# Altium schematic symbol library Power and Battery Management.SchLib: 645 symbols (part 7 of 15)
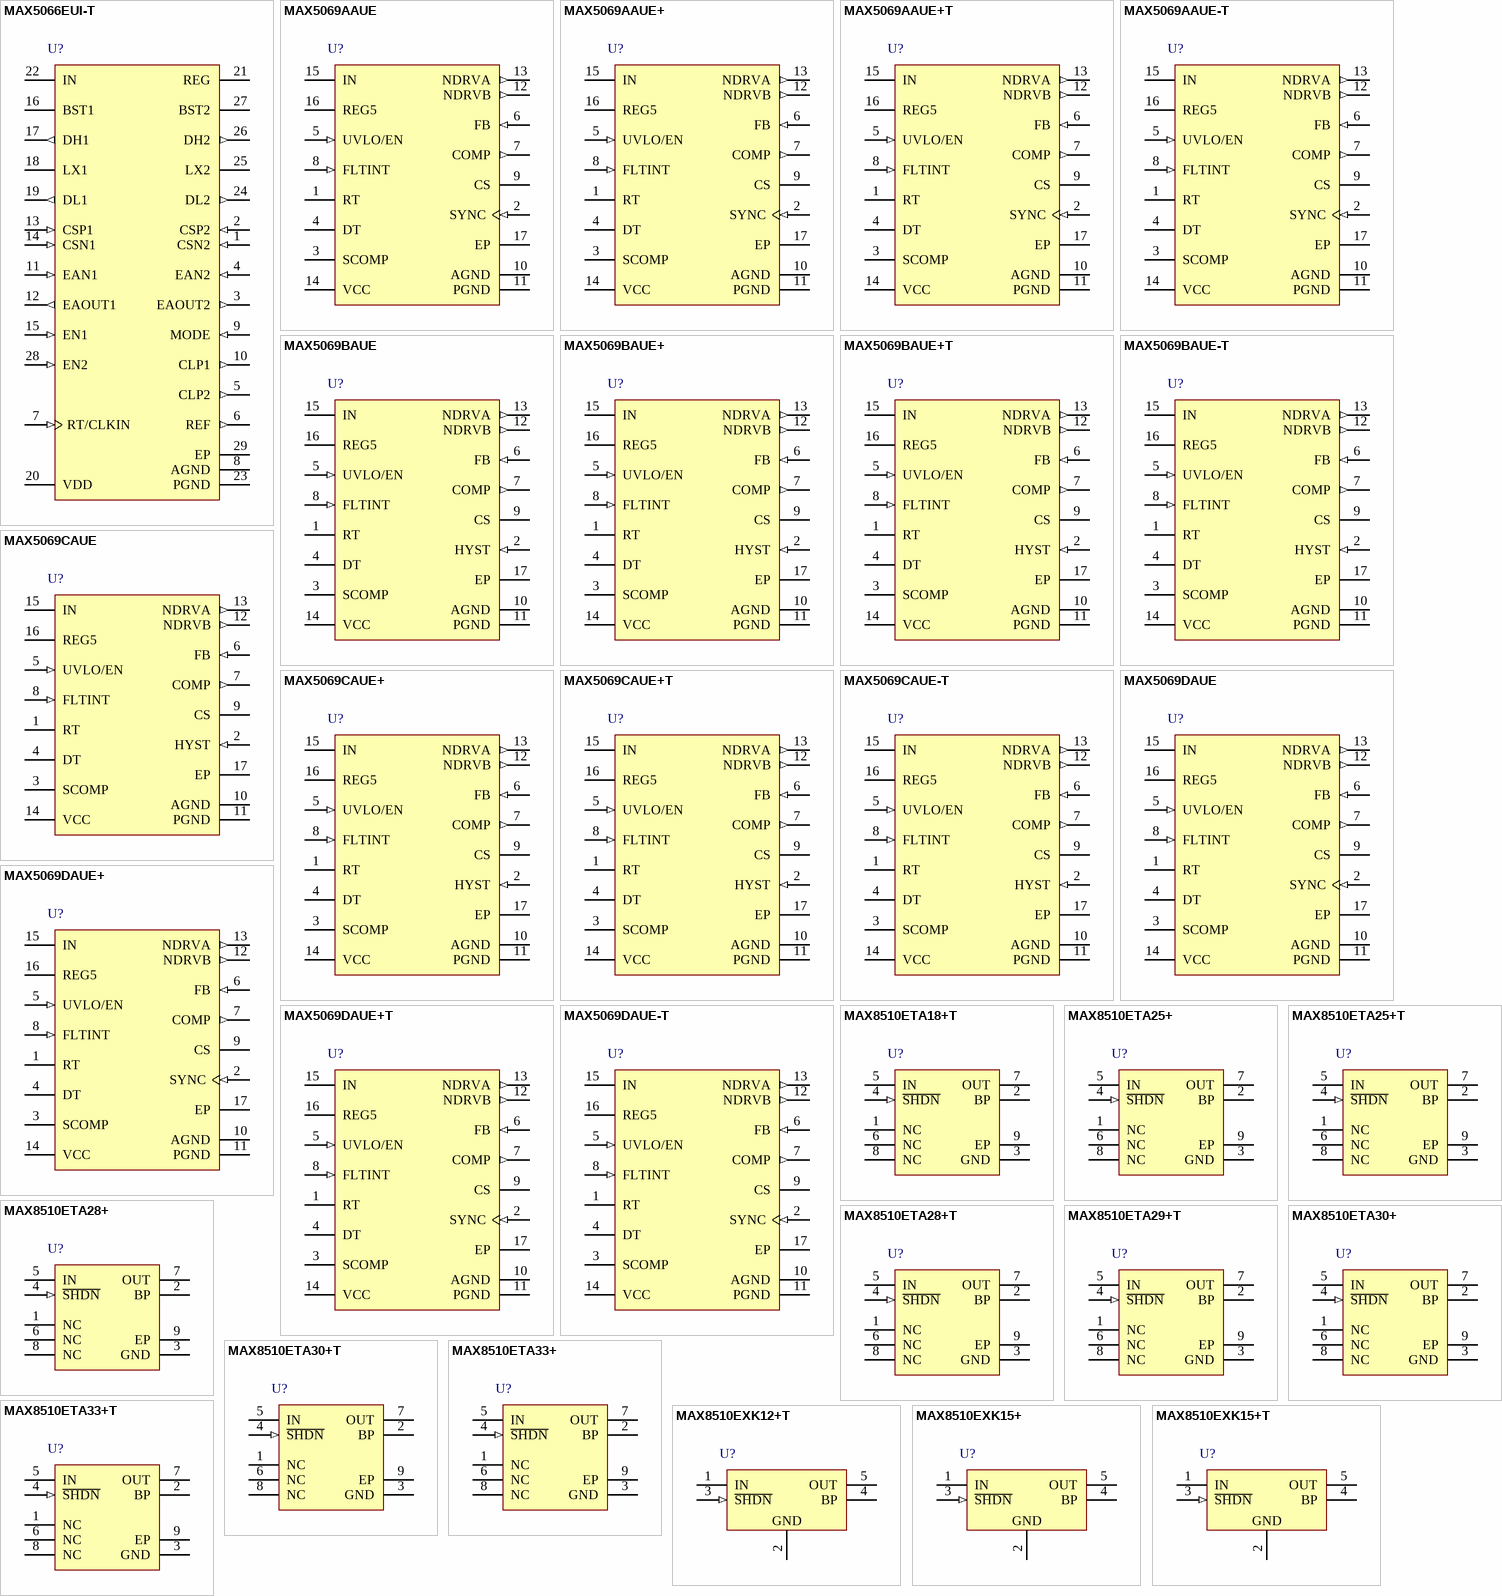
[diagram p25: symbols MAX5066EUI-T to MAX8510EXK15+T]

## MAX5066EUI-T
designator U?
Configurable, Single-/Dual-Output, Synchronous Buck Controller for High-Current Applications, 28-Pin TSSOP-EP, -40°C to +85°C, Tape and Reel; DatasheetVersion: Rev 1, Aug-2005; PackageVersion: revK, 2010; PackageReference: U28E-4; PackageDescription: 28-Pin Thin Shrink Small-Outline Package, Exposed Pad, TSSOP-EP; Code_JEDEC: MO-153-AET; ComponentLink1Description: Manufacturer URL; ComponentLink1URL: http://www.maxim-ic.com; ComponentLink2Description: Datasheet; ComponentLink2URL: http://datasheets.maxim-ic.com/en/ds/MAX5066.pdf; ComponentLink3Description: Package Specification; ComponentLink3URL: http://pdfserv.maxim-ic.com/package_dwgs/21-0108.PDF
footprint U28E-4_N (TSOP, 28-Leads, Body 9.7x4.4mm, Pitch 0.65mm, Thermal Pad, IPC Medium Density)
footprint U28E-4_L (TSOP, 28-Leads, Body 9.7x4.4mm, Pitch 0.65mm, Thermal Pad, IPC High Density)
footprint U28E-4_M (TSOP, 28-Leads, Body 9.7x4.4mm, Pitch 0.65mm, Thermal Pad, IPC Low Density)
pins: 1 CSN2 (in), 2 CSP2 (in), 3 EAOUT2 (out), 4 EAN2 (in), 5 CLP2 (out), 6 REF (out), 7 RT/CLKIN (in), 8 AGND (power), 9 MODE (in), 10 CLP1 (out), 11 EAN1 (in), 12 EAOUT1 (out), 13 CSP1 (in), 14 CSN1 (in), 15 EN1 (in), 16 BST1, 17 DH1 (out), 18 LX1, 19 DL1 (out), 20 VDD (power), 21 REG (power), 22 IN (power), 23 PGND (power), 24 DL2 (out), 25 LX2, 26 DH2 (out), 27 BST2, 28 EN2 (in), 29 EP (power)

## MAX5069AAUE
designator U?
High-Frequency, Current-Mode PWM Controller with Accurate Oscillator and Dual FET Drivers, sync input, 16-Pin TSSOP-EP, -40°C to +125°C; DatasheetVersion: Rev 1, Jul-2004; PackageVersion: revK, 2010; PackageReference: U16E-3; PackageDescription: 16-Pin Thin Shrink Small Outline Package, Exposed Pad 5 x 4.4 mm Body ,0.65 mm Pitch, TSSOP-EP; Code_JEDEC: MO-153-ABT; ComponentLink1Description: Manufacturer URL; ComponentLink1URL: http://www.maxim-ic.com; ComponentLink2Description: Datasheet; ComponentLink2URL: http://datasheets.maxim-ic.com/en/ds/MAX5069.pdf; ComponentLink3Description: Package Specification; ComponentLink3URL: http://pdfserv.maxim-ic.com/package_dwgs/21-0108.PDF
footprint U16E-3_N (TSOP, 16-Leads, Body 5x4.4mm, Pitch 0.65mm, Thermal Pad 2.85x2.85mm, IPC Medium Density)
footprint U16E-3_L (TSOP, 16-Leads, Body 5x4.4mm, Pitch 0.65mm, Thermal Pad 2.85x2.85mm, IPC High Density)
footprint U16E-3_M (TSOP, 16-Leads, Body 5x4.4mm, Pitch 0.65mm, Thermal Pad 2.85x2.85mm, IPC Low Density)
pins: 1 RT, 2 SYNC (in), 3 SCOMP, 4 DT, 5 UVLO/EN (in), 6 FB (in), 7 COMP (out), 8 FLTINT (in), 9 CS, 10 AGND (power), 11 PGND (power), 12 NDRVB (out), 13 NDRVA (out), 14 VCC (power), 15 IN (power), 16 REG5 (power), 17 EP (power)

## MAX5069AAUE+
designator U?
High-Frequency, Current-Mode PWM Controller with Accurate Oscillator and Dual FET Drivers, sync input, 16-Pin TSSOP-EP, -40°C to +125°C, Pb-Free; DatasheetVersion: Rev 1, Jul-2004; PackageVersion: revK, 2010; PackageReference: U16E+3; PackageDescription: 16-Pin Thin Shrink Small Outline Package, Exposed Pad 5 x 4.4 mm Body ,0.65 mm Pitch, TSSOP-EP, Pb-Free; Code_JEDEC: MO-153-ABT; ComponentLink1Description: Manufacturer URL; ComponentLink1URL: http://www.maxim-ic.com; ComponentLink2Description: Datasheet; ComponentLink2URL: http://datasheets.maxim-ic.com/en/ds/MAX5069.pdf; ComponentLink3Description: Package Specification; ComponentLink3URL: http://pdfserv.maxim-ic.com/package_dwgs/21-0108.PDF
footprint U16E+3_N (TSOP, 16-Leads, Body 5x4.4mm, Pitch 0.65mm, Thermal Pad 2.85x2.85mm, IPC Medium Density)
footprint U16E+3_L (TSOP, 16-Leads, Body 5x4.4mm, Pitch 0.65mm, Thermal Pad 2.85x2.85mm, IPC High Density)
footprint U16E+3_M (TSOP, 16-Leads, Body 5x4.4mm, Pitch 0.65mm, Thermal Pad 2.85x2.85mm, IPC Low Density)
pins: 1 RT, 2 SYNC (in), 3 SCOMP, 4 DT, 5 UVLO/EN (in), 6 FB (in), 7 COMP (out), 8 FLTINT (in), 9 CS, 10 AGND (power), 11 PGND (power), 12 NDRVB (out), 13 NDRVA (out), 14 VCC (power), 15 IN (power), 16 REG5 (power), 17 EP (power)

## MAX5069AAUE+T
designator U?
High-Frequency, Current-Mode PWM Controller with Accurate Oscillator and Dual FET Drivers, sync input, 16-Pin TSSOP-EP, -40°C to +125°C, Pb-Free, Tape and Reel; DatasheetVersion: Rev 1, Jul-2004; PackageVersion: revK, 2010; PackageReference: U16E+3; PackageDescription: 16-Pin Thin Shrink Small Outline Package, Exposed Pad 5 x 4.4 mm Body ,0.65 mm Pitch, TSSOP-EP, Pb-Free; Code_JEDEC: MO-153-ABT; ComponentLink1Description: Manufacturer URL; ComponentLink1URL: http://www.maxim-ic.com; ComponentLink2Description: Datasheet; ComponentLink2URL: http://datasheets.maxim-ic.com/en/ds/MAX5069.pdf; ComponentLink3Description: Package Specification; ComponentLink3URL: http://pdfserv.maxim-ic.com/package_dwgs/21-0108.PDF
footprint U16E+3_N (TSOP, 16-Leads, Body 5x4.4mm, Pitch 0.65mm, Thermal Pad 2.85x2.85mm, IPC Medium Density)
footprint U16E+3_L (TSOP, 16-Leads, Body 5x4.4mm, Pitch 0.65mm, Thermal Pad 2.85x2.85mm, IPC High Density)
footprint U16E+3_M (TSOP, 16-Leads, Body 5x4.4mm, Pitch 0.65mm, Thermal Pad 2.85x2.85mm, IPC Low Density)
pins: 1 RT, 2 SYNC (in), 3 SCOMP, 4 DT, 5 UVLO/EN (in), 6 FB (in), 7 COMP (out), 8 FLTINT (in), 9 CS, 10 AGND (power), 11 PGND (power), 12 NDRVB (out), 13 NDRVA (out), 14 VCC (power), 15 IN (power), 16 REG5 (power), 17 EP (power)

## MAX5069AAUE-T
designator U?
High-Frequency, Current-Mode PWM Controller with Accurate Oscillator and Dual FET Drivers, sync input, 16-Pin TSSOP-EP, -40°C to +125°C, Tape and Reel; DatasheetVersion: Rev 1, Jul-2004; PackageVersion: revK, 2010; PackageReference: U16E-3; PackageDescription: 16-Pin Thin Shrink Small Outline Package, Exposed Pad 5 x 4.4 mm Body ,0.65 mm Pitch, TSSOP-EP; Code_JEDEC: MO-153-ABT; ComponentLink1Description: Manufacturer URL; ComponentLink1URL: http://www.maxim-ic.com; ComponentLink2Description: Datasheet; ComponentLink2URL: http://datasheets.maxim-ic.com/en/ds/MAX5069.pdf; ComponentLink3Description: Package Specification; ComponentLink3URL: http://pdfserv.maxim-ic.com/package_dwgs/21-0108.PDF
footprint U16E-3_N (TSOP, 16-Leads, Body 5x4.4mm, Pitch 0.65mm, Thermal Pad 2.85x2.85mm, IPC Medium Density)
footprint U16E-3_L (TSOP, 16-Leads, Body 5x4.4mm, Pitch 0.65mm, Thermal Pad 2.85x2.85mm, IPC High Density)
footprint U16E-3_M (TSOP, 16-Leads, Body 5x4.4mm, Pitch 0.65mm, Thermal Pad 2.85x2.85mm, IPC Low Density)
pins: 1 RT, 2 SYNC (in), 3 SCOMP, 4 DT, 5 UVLO/EN (in), 6 FB (in), 7 COMP (out), 8 FLTINT (in), 9 CS, 10 AGND (power), 11 PGND (power), 12 NDRVB (out), 13 NDRVA (out), 14 VCC (power), 15 IN (power), 16 REG5 (power), 17 EP (power)

## MAX5069BAUE
designator U?
High-Frequency, Current-Mode PWM Controller with Accurate Oscillator and Dual FET Drivers, 16-Pin TSSOP-EP, -40°C to +125°C; DatasheetVersion: Rev 1, Jul-2004; PackageVersion: revK, 2010; PackageReference: U16E-3; PackageDescription: 16-Pin Thin Shrink Small Outline Package, Exposed Pad 5 x 4.4 mm Body ,0.65 mm Pitch, TSSOP-EP; Code_JEDEC: MO-153-ABT; ComponentLink1Description: Manufacturer URL; ComponentLink1URL: http://www.maxim-ic.com; ComponentLink2Description: Datasheet; ComponentLink2URL: http://datasheets.maxim-ic.com/en/ds/MAX5069.pdf; ComponentLink3Description: Package Specification; ComponentLink3URL: http://pdfserv.maxim-ic.com/package_dwgs/21-0108.PDF
footprint U16E-3_N (TSOP, 16-Leads, Body 5x4.4mm, Pitch 0.65mm, Thermal Pad 2.85x2.85mm, IPC Medium Density)
footprint U16E-3_L (TSOP, 16-Leads, Body 5x4.4mm, Pitch 0.65mm, Thermal Pad 2.85x2.85mm, IPC High Density)
footprint U16E-3_M (TSOP, 16-Leads, Body 5x4.4mm, Pitch 0.65mm, Thermal Pad 2.85x2.85mm, IPC Low Density)
pins: 1 RT, 2 HYST (in), 3 SCOMP, 4 DT, 5 UVLO/EN (in), 6 FB (in), 7 COMP (out), 8 FLTINT (in), 9 CS, 10 AGND (power), 11 PGND (power), 12 NDRVB (out), 13 NDRVA (out), 14 VCC (power), 15 IN (power), 16 REG5 (power), 17 EP (power)

## MAX5069BAUE+
designator U?
High-Frequency, Current-Mode PWM Controller with Accurate Oscillator and Dual FET Drivers, 16-Pin TSSOP-EP, -40°C to +125°C, Pb-Free; DatasheetVersion: Rev 1, Jul-2004; PackageVersion: revK, 2010; PackageReference: U16E+3; PackageDescription: 16-Pin Thin Shrink Small Outline Package, Exposed Pad 5 x 4.4 mm Body ,0.65 mm Pitch, TSSOP-EP, Pb-Free; Code_JEDEC: MO-153-ABT; ComponentLink1Description: Manufacturer URL; ComponentLink1URL: http://www.maxim-ic.com; ComponentLink2Description: Datasheet; ComponentLink2URL: http://datasheets.maxim-ic.com/en/ds/MAX5069.pdf; ComponentLink3Description: Package Specification; ComponentLink3URL: http://pdfserv.maxim-ic.com/package_dwgs/21-0108.PDF
footprint U16E+3_N (TSOP, 16-Leads, Body 5x4.4mm, Pitch 0.65mm, Thermal Pad 2.85x2.85mm, IPC Medium Density)
footprint U16E+3_L (TSOP, 16-Leads, Body 5x4.4mm, Pitch 0.65mm, Thermal Pad 2.85x2.85mm, IPC High Density)
footprint U16E+3_M (TSOP, 16-Leads, Body 5x4.4mm, Pitch 0.65mm, Thermal Pad 2.85x2.85mm, IPC Low Density)
pins: 1 RT, 2 HYST (in), 3 SCOMP, 4 DT, 5 UVLO/EN (in), 6 FB (in), 7 COMP (out), 8 FLTINT (in), 9 CS, 10 AGND (power), 11 PGND (power), 12 NDRVB (out), 13 NDRVA (out), 14 VCC (power), 15 IN (power), 16 REG5 (power), 17 EP (power)

## MAX5069BAUE+T
designator U?
High-Frequency, Current-Mode PWM Controller with Accurate Oscillator and Dual FET Drivers, 16-Pin TSSOP-EP, -40°C to +125°C, Pb-Free, Tape and Reel; DatasheetVersion: Rev 1, Jul-2004; PackageVersion: revK, 2010; PackageReference: U16E+3; PackageDescription: 16-Pin Thin Shrink Small Outline Package, Exposed Pad 5 x 4.4 mm Body ,0.65 mm Pitch, TSSOP-EP, Pb-Free; Code_JEDEC: MO-153-ABT; ComponentLink1Description: Manufacturer URL; ComponentLink1URL: http://www.maxim-ic.com; ComponentLink2Description: Datasheet; ComponentLink2URL: http://datasheets.maxim-ic.com/en/ds/MAX5069.pdf; ComponentLink3Description: Package Specification; ComponentLink3URL: http://pdfserv.maxim-ic.com/package_dwgs/21-0108.PDF
footprint U16E+3_N (TSOP, 16-Leads, Body 5x4.4mm, Pitch 0.65mm, Thermal Pad 2.85x2.85mm, IPC Medium Density)
footprint U16E+3_L (TSOP, 16-Leads, Body 5x4.4mm, Pitch 0.65mm, Thermal Pad 2.85x2.85mm, IPC High Density)
footprint U16E+3_M (TSOP, 16-Leads, Body 5x4.4mm, Pitch 0.65mm, Thermal Pad 2.85x2.85mm, IPC Low Density)
pins: 1 RT, 2 HYST (in), 3 SCOMP, 4 DT, 5 UVLO/EN (in), 6 FB (in), 7 COMP (out), 8 FLTINT (in), 9 CS, 10 AGND (power), 11 PGND (power), 12 NDRVB (out), 13 NDRVA (out), 14 VCC (power), 15 IN (power), 16 REG5 (power), 17 EP (power)

## MAX5069BAUE-T
designator U?
High-Frequency, Current-Mode PWM Controller with Accurate Oscillator and Dual FET Drivers, 16-Pin TSSOP-EP, -40°C to +125°C, Tape and Reel; DatasheetVersion: Rev 1, Jul-2004; PackageVersion: revK, 2010; PackageReference: U16E-3; PackageDescription: 16-Pin Thin Shrink Small Outline Package, Exposed Pad 5 x 4.4 mm Body ,0.65 mm Pitch, TSSOP-EP; Code_JEDEC: MO-153-ABT; ComponentLink1Description: Manufacturer URL; ComponentLink1URL: http://www.maxim-ic.com; ComponentLink2Description: Datasheet; ComponentLink2URL: http://datasheets.maxim-ic.com/en/ds/MAX5069.pdf; ComponentLink3Description: Package Specification; ComponentLink3URL: http://pdfserv.maxim-ic.com/package_dwgs/21-0108.PDF
footprint U16E-3_N (TSOP, 16-Leads, Body 5x4.4mm, Pitch 0.65mm, Thermal Pad 2.85x2.85mm, IPC Medium Density)
footprint U16E-3_L (TSOP, 16-Leads, Body 5x4.4mm, Pitch 0.65mm, Thermal Pad 2.85x2.85mm, IPC High Density)
footprint U16E-3_M (TSOP, 16-Leads, Body 5x4.4mm, Pitch 0.65mm, Thermal Pad 2.85x2.85mm, IPC Low Density)
pins: 1 RT, 2 HYST (in), 3 SCOMP, 4 DT, 5 UVLO/EN (in), 6 FB (in), 7 COMP (out), 8 FLTINT (in), 9 CS, 10 AGND (power), 11 PGND (power), 12 NDRVB (out), 13 NDRVA (out), 14 VCC (power), 15 IN (power), 16 REG5 (power), 17 EP (power)

## MAX5069CAUE
designator U?
High-Frequency, Current-Mode PWM Controller with Accurate Oscillator and Dual FET Drivers, 16-Pin TSSOP-EP, -40°C to +125°C; DatasheetVersion: Rev 1, Jul-2004; PackageVersion: revK, 2010; PackageReference: U16E-3; PackageDescription: 16-Pin Thin Shrink Small Outline Package, Exposed Pad 5 x 4.4 mm Body ,0.65 mm Pitch, TSSOP-EP; Code_JEDEC: MO-153-ABT; ComponentLink1Description: Manufacturer URL; ComponentLink1URL: http://www.maxim-ic.com; ComponentLink2Description: Datasheet; ComponentLink2URL: http://datasheets.maxim-ic.com/en/ds/MAX5069.pdf; ComponentLink3Description: Package Specification; ComponentLink3URL: http://pdfserv.maxim-ic.com/package_dwgs/21-0108.PDF
footprint U16E-3_N (TSOP, 16-Leads, Body 5x4.4mm, Pitch 0.65mm, Thermal Pad 2.85x2.85mm, IPC Medium Density)
footprint U16E-3_L (TSOP, 16-Leads, Body 5x4.4mm, Pitch 0.65mm, Thermal Pad 2.85x2.85mm, IPC High Density)
footprint U16E-3_M (TSOP, 16-Leads, Body 5x4.4mm, Pitch 0.65mm, Thermal Pad 2.85x2.85mm, IPC Low Density)
pins: 1 RT, 2 HYST (in), 3 SCOMP, 4 DT, 5 UVLO/EN (in), 6 FB (in), 7 COMP (out), 8 FLTINT (in), 9 CS, 10 AGND (power), 11 PGND (power), 12 NDRVB (out), 13 NDRVA (out), 14 VCC (power), 15 IN (power), 16 REG5 (power), 17 EP (power)

## MAX5069CAUE+
designator U?
High-Frequency, Current-Mode PWM Controller with Accurate Oscillator and Dual FET Drivers, 16-Pin TSSOP-EP, -40°C to +125°C, Pb-Free; DatasheetVersion: Rev 1, Jul-2004; PackageVersion: revK, 2010; PackageReference: U16E+3; PackageDescription: 16-Pin Thin Shrink Small Outline Package, Exposed Pad 5 x 4.4 mm Body ,0.65 mm Pitch, TSSOP-EP, Pb-Free; Code_JEDEC: MO-153-ABT; ComponentLink1Description: Manufacturer URL; ComponentLink1URL: http://www.maxim-ic.com; ComponentLink2Description: Datasheet; ComponentLink2URL: http://datasheets.maxim-ic.com/en/ds/MAX5069.pdf; ComponentLink3Description: Package Specification; ComponentLink3URL: http://pdfserv.maxim-ic.com/package_dwgs/21-0108.PDF
footprint U16E+3_N (TSOP, 16-Leads, Body 5x4.4mm, Pitch 0.65mm, Thermal Pad 2.85x2.85mm, IPC Medium Density)
footprint U16E+3_L (TSOP, 16-Leads, Body 5x4.4mm, Pitch 0.65mm, Thermal Pad 2.85x2.85mm, IPC High Density)
footprint U16E+3_M (TSOP, 16-Leads, Body 5x4.4mm, Pitch 0.65mm, Thermal Pad 2.85x2.85mm, IPC Low Density)
pins: 1 RT, 2 HYST (in), 3 SCOMP, 4 DT, 5 UVLO/EN (in), 6 FB (in), 7 COMP (out), 8 FLTINT (in), 9 CS, 10 AGND (power), 11 PGND (power), 12 NDRVB (out), 13 NDRVA (out), 14 VCC (power), 15 IN (power), 16 REG5 (power), 17 EP (power)

## MAX5069CAUE+T
designator U?
High-Frequency, Current-Mode PWM Controller with Accurate Oscillator and Dual FET Drivers, 16-Pin TSSOP-EP, -40°C to +125°C, Pb-Free, Tape and Reel; DatasheetVersion: Rev 1, Jul-2004; PackageVersion: revK, 2010; PackageReference: U16E+3; PackageDescription: 16-Pin Thin Shrink Small Outline Package, Exposed Pad 5 x 4.4 mm Body ,0.65 mm Pitch, TSSOP-EP, Pb-Free; Code_JEDEC: MO-153-ABT; ComponentLink1Description: Manufacturer URL; ComponentLink1URL: http://www.maxim-ic.com; ComponentLink2Description: Datasheet; ComponentLink2URL: http://datasheets.maxim-ic.com/en/ds/MAX5069.pdf; ComponentLink3Description: Package Specification; ComponentLink3URL: http://pdfserv.maxim-ic.com/package_dwgs/21-0108.PDF
footprint U16E+3_N (TSOP, 16-Leads, Body 5x4.4mm, Pitch 0.65mm, Thermal Pad 2.85x2.85mm, IPC Medium Density)
footprint U16E+3_L (TSOP, 16-Leads, Body 5x4.4mm, Pitch 0.65mm, Thermal Pad 2.85x2.85mm, IPC High Density)
footprint U16E+3_M (TSOP, 16-Leads, Body 5x4.4mm, Pitch 0.65mm, Thermal Pad 2.85x2.85mm, IPC Low Density)
pins: 1 RT, 2 HYST (in), 3 SCOMP, 4 DT, 5 UVLO/EN (in), 6 FB (in), 7 COMP (out), 8 FLTINT (in), 9 CS, 10 AGND (power), 11 PGND (power), 12 NDRVB (out), 13 NDRVA (out), 14 VCC (power), 15 IN (power), 16 REG5 (power), 17 EP (power)

## MAX5069CAUE-T
designator U?
High-Frequency, Current-Mode PWM Controller with Accurate Oscillator and Dual FET Drivers, 16-Pin TSSOP-EP, -40°C to +125°C, Tape and Reel; DatasheetVersion: Rev 1, Jul-2004; PackageVersion: revK, 2010; PackageReference: U16E-3; PackageDescription: 16-Pin Thin Shrink Small Outline Package, Exposed Pad 5 x 4.4 mm Body ,0.65 mm Pitch, TSSOP-EP; Code_JEDEC: MO-153-ABT; ComponentLink1Description: Manufacturer URL; ComponentLink1URL: http://www.maxim-ic.com; ComponentLink2Description: Datasheet; ComponentLink2URL: http://datasheets.maxim-ic.com/en/ds/MAX5069.pdf; ComponentLink3Description: Package Specification; ComponentLink3URL: http://pdfserv.maxim-ic.com/package_dwgs/21-0108.PDF
footprint U16E-3_N (TSOP, 16-Leads, Body 5x4.4mm, Pitch 0.65mm, Thermal Pad 2.85x2.85mm, IPC Medium Density)
footprint U16E-3_L (TSOP, 16-Leads, Body 5x4.4mm, Pitch 0.65mm, Thermal Pad 2.85x2.85mm, IPC High Density)
footprint U16E-3_M (TSOP, 16-Leads, Body 5x4.4mm, Pitch 0.65mm, Thermal Pad 2.85x2.85mm, IPC Low Density)
pins: 1 RT, 2 HYST (in), 3 SCOMP, 4 DT, 5 UVLO/EN (in), 6 FB (in), 7 COMP (out), 8 FLTINT (in), 9 CS, 10 AGND (power), 11 PGND (power), 12 NDRVB (out), 13 NDRVA (out), 14 VCC (power), 15 IN (power), 16 REG5 (power), 17 EP (power)

## MAX5069DAUE
designator U?
High-Frequency, Current-Mode PWM Controller with Accurate Oscillator and Dual FET Drivers, sync input, 16-Pin TSSOP-EP, -40°C to +125°C; DatasheetVersion: Rev 1, Jul-2004; PackageVersion: revK, 2010; PackageReference: U16E-3; PackageDescription: 16-Pin Thin Shrink Small Outline Package, Exposed Pad 5 x 4.4 mm Body ,0.65 mm Pitch, TSSOP-EP; Code_JEDEC: MO-153-ABT; ComponentLink1Description: Manufacturer URL; ComponentLink1URL: http://www.maxim-ic.com; ComponentLink2Description: Datasheet; ComponentLink2URL: http://datasheets.maxim-ic.com/en/ds/MAX5069.pdf; ComponentLink3Description: Package Specification; ComponentLink3URL: http://pdfserv.maxim-ic.com/package_dwgs/21-0108.PDF
footprint U16E-3_N (TSOP, 16-Leads, Body 5x4.4mm, Pitch 0.65mm, Thermal Pad 2.85x2.85mm, IPC Medium Density)
footprint U16E-3_L (TSOP, 16-Leads, Body 5x4.4mm, Pitch 0.65mm, Thermal Pad 2.85x2.85mm, IPC High Density)
footprint U16E-3_M (TSOP, 16-Leads, Body 5x4.4mm, Pitch 0.65mm, Thermal Pad 2.85x2.85mm, IPC Low Density)
pins: 1 RT, 2 SYNC (in), 3 SCOMP, 4 DT, 5 UVLO/EN (in), 6 FB (in), 7 COMP (out), 8 FLTINT (in), 9 CS, 10 AGND (power), 11 PGND (power), 12 NDRVB (out), 13 NDRVA (out), 14 VCC (power), 15 IN (power), 16 REG5 (power), 17 EP (power)

## MAX5069DAUE+
designator U?
High-Frequency, Current-Mode PWM Controller with Accurate Oscillator and Dual FET Drivers, sync input, 16-Pin TSSOP-EP, -40°C to +125°C, Pb-Free; DatasheetVersion: Rev 1, Jul-2004; PackageVersion: revK, 2010; PackageReference: U16E+3; PackageDescription: 16-Pin Thin Shrink Small Outline Package, Exposed Pad 5 x 4.4 mm Body ,0.65 mm Pitch, TSSOP-EP, Pb-Free; Code_JEDEC: MO-153-ABT; ComponentLink1Description: Manufacturer URL; ComponentLink1URL: http://www.maxim-ic.com; ComponentLink2Description: Datasheet; ComponentLink2URL: http://datasheets.maxim-ic.com/en/ds/MAX5069.pdf; ComponentLink3Description: Package Specification; ComponentLink3URL: http://pdfserv.maxim-ic.com/package_dwgs/21-0108.PDF
footprint U16E+3_N (TSOP, 16-Leads, Body 5x4.4mm, Pitch 0.65mm, Thermal Pad 2.85x2.85mm, IPC Medium Density)
footprint U16E+3_L (TSOP, 16-Leads, Body 5x4.4mm, Pitch 0.65mm, Thermal Pad 2.85x2.85mm, IPC High Density)
footprint U16E+3_M (TSOP, 16-Leads, Body 5x4.4mm, Pitch 0.65mm, Thermal Pad 2.85x2.85mm, IPC Low Density)
pins: 1 RT, 2 SYNC (in), 3 SCOMP, 4 DT, 5 UVLO/EN (in), 6 FB (in), 7 COMP (out), 8 FLTINT (in), 9 CS, 10 AGND (power), 11 PGND (power), 12 NDRVB (out), 13 NDRVA (out), 14 VCC (power), 15 IN (power), 16 REG5 (power), 17 EP (power)

## MAX5069DAUE+T
designator U?
High-Frequency, Current-Mode PWM Controller with Accurate Oscillator and Dual FET Drivers, sync input, 16-Pin TSSOP-EP, -40°C to +125°C, Pb-Free, Tape and Reel; DatasheetVersion: Rev 1, Jul-2004; PackageVersion: revK, 2010; PackageReference: U16E+3; PackageDescription: 16-Pin Thin Shrink Small Outline Package, Exposed Pad 5 x 4.4 mm Body ,0.65 mm Pitch, TSSOP-EP, Pb-Free; Code_JEDEC: MO-153-ABT; ComponentLink1Description: Manufacturer URL; ComponentLink1URL: http://www.maxim-ic.com; ComponentLink2Description: Datasheet; ComponentLink2URL: http://datasheets.maxim-ic.com/en/ds/MAX5069.pdf; ComponentLink3Description: Package Specification; ComponentLink3URL: http://pdfserv.maxim-ic.com/package_dwgs/21-0108.PDF
footprint U16E+3_N (TSOP, 16-Leads, Body 5x4.4mm, Pitch 0.65mm, Thermal Pad 2.85x2.85mm, IPC Medium Density)
footprint U16E+3_L (TSOP, 16-Leads, Body 5x4.4mm, Pitch 0.65mm, Thermal Pad 2.85x2.85mm, IPC High Density)
footprint U16E+3_M (TSOP, 16-Leads, Body 5x4.4mm, Pitch 0.65mm, Thermal Pad 2.85x2.85mm, IPC Low Density)
pins: 1 RT, 2 SYNC (in), 3 SCOMP, 4 DT, 5 UVLO/EN (in), 6 FB (in), 7 COMP (out), 8 FLTINT (in), 9 CS, 10 AGND (power), 11 PGND (power), 12 NDRVB (out), 13 NDRVA (out), 14 VCC (power), 15 IN (power), 16 REG5 (power), 17 EP (power)

## MAX5069DAUE-T
designator U?
High-Frequency, Current-Mode PWM Controller with Accurate Oscillator and Dual FET Drivers, sync input, 16-Pin TSSOP-EP, -40°C to +125°C, Tape and Reel; DatasheetVersion: Rev 1, Jul-2004; PackageVersion: revK, 2010; PackageReference: U16E-3; PackageDescription: 16-Pin Thin Shrink Small Outline Package, Exposed Pad 5 x 4.4 mm Body ,0.65 mm Pitch, TSSOP-EP; Code_JEDEC: MO-153-ABT; ComponentLink1Description: Manufacturer URL; ComponentLink1URL: http://www.maxim-ic.com; ComponentLink2Description: Datasheet; ComponentLink2URL: http://datasheets.maxim-ic.com/en/ds/MAX5069.pdf; ComponentLink3Description: Package Specification; ComponentLink3URL: http://pdfserv.maxim-ic.com/package_dwgs/21-0108.PDF
footprint U16E-3_N (TSOP, 16-Leads, Body 5x4.4mm, Pitch 0.65mm, Thermal Pad 2.85x2.85mm, IPC Medium Density)
footprint U16E-3_L (TSOP, 16-Leads, Body 5x4.4mm, Pitch 0.65mm, Thermal Pad 2.85x2.85mm, IPC High Density)
footprint U16E-3_M (TSOP, 16-Leads, Body 5x4.4mm, Pitch 0.65mm, Thermal Pad 2.85x2.85mm, IPC Low Density)
pins: 1 RT, 2 SYNC (in), 3 SCOMP, 4 DT, 5 UVLO/EN (in), 6 FB (in), 7 COMP (out), 8 FLTINT (in), 9 CS, 10 AGND (power), 11 PGND (power), 12 NDRVB (out), 13 NDRVA (out), 14 VCC (power), 15 IN (power), 16 REG5 (power), 17 EP (power)

## MAX8510ETA18+T
designator U?
Ultra-Low-Noise, High PSRR, Low-Dropout, 120mA Linear Regulator, 1.8V Out, 8-Pin TDFN-EP, -40°C to +85°C, Pb-Free, Tape and Reel; DatasheetVersion: Rev 4, Aug-2011; PackageVersion: revF, 2011; PackageReference: T822+1; PackageDescription: 8-Pin Plastic Very Very Thin Dual Flatpack, No Leads, 2 x 2 x 0.75 mm Body, 0.5 mm Pitch, TDFN, Pb-Free; Code_JEDEC: MO-229*; ComponentLink1Description: Manufacturer URL; ComponentLink1URL: http://www.maxim-ic.com; ComponentLink2Description: Datasheet; ComponentLink2URL: http://datasheets.maxim-ic.com/en/ds/MAX8510-MAX8512.pdf; ComponentLink3Description: Package Specification; ComponentLink3URL: http://pdfserv.maxim-ic.com/package_dwgs/21-0168.PDF
footprint T822+1_N (SON, 8-Leads, Body 2x2mm, Pitch 0.5mm, Thermal Pad 1.3x0.7mm, IPC Medium Density)
footprint T822+1_L (SON, 8-Leads, Body 2x2mm, Pitch 0.5mm, Thermal Pad 1.3x0.7mm, IPC High Density)
footprint T822+1_M (SON, 8-Leads, Body 2x2mm, Pitch 0.5mm, Thermal Pad 1.3x0.7mm, IPC Low Density)
pins: 1 NC, 2 BP, 3 GND (power), 4 ~{SHDN} (in), 5 IN (power), 6 NC, 7 OUT (power), 8 NC, 9 EP (power)

## MAX8510ETA25+
designator U?
Ultra-Low-Noise, High PSRR, Low-Dropout, 120mA Linear Regulator, 2.5V Out, 8-Pin TDFN-EP, -40°C to +85°C, Pb-Free; DatasheetVersion: Rev 4, Aug-2011; PackageVersion: revF, 2011; PackageReference: T822+1; PackageDescription: 8-Pin Plastic Very Very Thin Dual Flatpack, No Leads, 2 x 2 x 0.75 mm Body, 0.5 mm Pitch, TDFN, Pb-Free; Code_JEDEC: MO-229*; ComponentLink1Description: Manufacturer URL; ComponentLink1URL: http://www.maxim-ic.com; ComponentLink2Description: Datasheet; ComponentLink2URL: http://datasheets.maxim-ic.com/en/ds/MAX8510-MAX8512.pdf; ComponentLink3Description: Package Specification; ComponentLink3URL: http://pdfserv.maxim-ic.com/package_dwgs/21-0168.PDF
footprint T822+1_N (SON, 8-Leads, Body 2x2mm, Pitch 0.5mm, Thermal Pad 1.3x0.7mm, IPC Medium Density)
footprint T822+1_L (SON, 8-Leads, Body 2x2mm, Pitch 0.5mm, Thermal Pad 1.3x0.7mm, IPC High Density)
footprint T822+1_M (SON, 8-Leads, Body 2x2mm, Pitch 0.5mm, Thermal Pad 1.3x0.7mm, IPC Low Density)
pins: 1 NC, 2 BP, 3 GND (power), 4 ~{SHDN} (in), 5 IN (power), 6 NC, 7 OUT (power), 8 NC, 9 EP (power)

## MAX8510ETA25+T
designator U?
Ultra-Low-Noise, High PSRR, Low-Dropout, 120mA Linear Regulator, 2.5V Out, 8-Pin TDFN-EP, -40°C to +85°C, Pb-Free, Tape and Reel; DatasheetVersion: Rev 4, Aug-2011; PackageVersion: revF, 2011; PackageReference: T822+1; PackageDescription: 8-Pin Plastic Very Very Thin Dual Flatpack, No Leads, 2 x 2 x 0.75 mm Body, 0.5 mm Pitch, TDFN, Pb-Free; Code_JEDEC: MO-229*; ComponentLink1Description: Manufacturer URL; ComponentLink1URL: http://www.maxim-ic.com; ComponentLink2Description: Datasheet; ComponentLink2URL: http://datasheets.maxim-ic.com/en/ds/MAX8510-MAX8512.pdf; ComponentLink3Description: Package Specification; ComponentLink3URL: http://pdfserv.maxim-ic.com/package_dwgs/21-0168.PDF
footprint T822+1_N (SON, 8-Leads, Body 2x2mm, Pitch 0.5mm, Thermal Pad 1.3x0.7mm, IPC Medium Density)
footprint T822+1_L (SON, 8-Leads, Body 2x2mm, Pitch 0.5mm, Thermal Pad 1.3x0.7mm, IPC High Density)
footprint T822+1_M (SON, 8-Leads, Body 2x2mm, Pitch 0.5mm, Thermal Pad 1.3x0.7mm, IPC Low Density)
pins: 1 NC, 2 BP, 3 GND (power), 4 ~{SHDN} (in), 5 IN (power), 6 NC, 7 OUT (power), 8 NC, 9 EP (power)

## MAX8510ETA28+
designator U?
Ultra-Low-Noise, High PSRR, Low-Dropout, 120mA Linear Regulator, 2.8V Out, 8-Pin TDFN-EP, -40°C to +85°C, Pb-Free; DatasheetVersion: Rev 4, Aug-2011; PackageVersion: revF, 2011; PackageReference: T822+1; PackageDescription: 8-Pin Plastic Very Very Thin Dual Flatpack, No Leads, 2 x 2 x 0.75 mm Body, 0.5 mm Pitch, TDFN, Pb-Free; Code_JEDEC: MO-229*; ComponentLink1Description: Manufacturer URL; ComponentLink1URL: http://www.maxim-ic.com; ComponentLink2Description: Datasheet; ComponentLink2URL: http://datasheets.maxim-ic.com/en/ds/MAX8510-MAX8512.pdf; ComponentLink3Description: Package Specification; ComponentLink3URL: http://pdfserv.maxim-ic.com/package_dwgs/21-0168.PDF
footprint T822+1_N (SON, 8-Leads, Body 2x2mm, Pitch 0.5mm, Thermal Pad 1.3x0.7mm, IPC Medium Density)
footprint T822+1_L (SON, 8-Leads, Body 2x2mm, Pitch 0.5mm, Thermal Pad 1.3x0.7mm, IPC High Density)
footprint T822+1_M (SON, 8-Leads, Body 2x2mm, Pitch 0.5mm, Thermal Pad 1.3x0.7mm, IPC Low Density)
pins: 1 NC, 2 BP, 3 GND (power), 4 ~{SHDN} (in), 5 IN (power), 6 NC, 7 OUT (power), 8 NC, 9 EP (power)

## MAX8510ETA28+T
designator U?
Ultra-Low-Noise, High PSRR, Low-Dropout, 120mA Linear Regulator, 2.8V Out, 8-Pin TDFN-EP, -40°C to +85°C, Pb-Free, Tape and Reel; DatasheetVersion: Rev 4, Aug-2011; PackageVersion: revF, 2011; PackageReference: T822+1; PackageDescription: 8-Pin Plastic Very Very Thin Dual Flatpack, No Leads, 2 x 2 x 0.75 mm Body, 0.5 mm Pitch, TDFN, Pb-Free; Code_JEDEC: MO-229*; ComponentLink1Description: Manufacturer URL; ComponentLink1URL: http://www.maxim-ic.com; ComponentLink2Description: Datasheet; ComponentLink2URL: http://datasheets.maxim-ic.com/en/ds/MAX8510-MAX8512.pdf; ComponentLink3Description: Package Specification; ComponentLink3URL: http://pdfserv.maxim-ic.com/package_dwgs/21-0168.PDF
footprint T822+1_N (SON, 8-Leads, Body 2x2mm, Pitch 0.5mm, Thermal Pad 1.3x0.7mm, IPC Medium Density)
footprint T822+1_L (SON, 8-Leads, Body 2x2mm, Pitch 0.5mm, Thermal Pad 1.3x0.7mm, IPC High Density)
footprint T822+1_M (SON, 8-Leads, Body 2x2mm, Pitch 0.5mm, Thermal Pad 1.3x0.7mm, IPC Low Density)
pins: 1 NC, 2 BP, 3 GND (power), 4 ~{SHDN} (in), 5 IN (power), 6 NC, 7 OUT (power), 8 NC, 9 EP (power)

## MAX8510ETA29+T
designator U?
Ultra-Low-Noise, High PSRR, Low-Dropout, 120mA Linear Regulator, 2.85V Out, 8-Pin TDFN-EP, -40°C to +85°C, Pb-Free, Tape and Reel; DatasheetVersion: Rev 4, Aug-2011; PackageVersion: revF, 2011; PackageReference: T822+1; PackageDescription: 8-Pin Plastic Very Very Thin Dual Flatpack, No Leads, 2 x 2 x 0.75 mm Body, 0.5 mm Pitch, TDFN, Pb-Free; Code_JEDEC: MO-229*; ComponentLink1Description: Manufacturer URL; ComponentLink1URL: http://www.maxim-ic.com; ComponentLink2Description: Datasheet; ComponentLink2URL: http://datasheets.maxim-ic.com/en/ds/MAX8510-MAX8512.pdf; ComponentLink3Description: Package Specification; ComponentLink3URL: http://pdfserv.maxim-ic.com/package_dwgs/21-0168.PDF
footprint T822+1_N (SON, 8-Leads, Body 2x2mm, Pitch 0.5mm, Thermal Pad 1.3x0.7mm, IPC Medium Density)
footprint T822+1_L (SON, 8-Leads, Body 2x2mm, Pitch 0.5mm, Thermal Pad 1.3x0.7mm, IPC High Density)
footprint T822+1_M (SON, 8-Leads, Body 2x2mm, Pitch 0.5mm, Thermal Pad 1.3x0.7mm, IPC Low Density)
pins: 1 NC, 2 BP, 3 GND (power), 4 ~{SHDN} (in), 5 IN (power), 6 NC, 7 OUT (power), 8 NC, 9 EP (power)

## MAX8510ETA30+
designator U?
Ultra-Low-Noise, High PSRR, Low-Dropout, 120mA Linear Regulator, 3V Out, 8-Pin TDFN-EP, -40°C to +85°C, Pb-Free; DatasheetVersion: Rev 4, Aug-2011; PackageVersion: revF, 2011; PackageReference: T822+1; PackageDescription: 8-Pin Plastic Very Very Thin Dual Flatpack, No Leads, 2 x 2 x 0.75 mm Body, 0.5 mm Pitch, TDFN, Pb-Free; Code_JEDEC: MO-229*; ComponentLink1Description: Manufacturer URL; ComponentLink1URL: http://www.maxim-ic.com; ComponentLink2Description: Datasheet; ComponentLink2URL: http://datasheets.maxim-ic.com/en/ds/MAX8510-MAX8512.pdf; ComponentLink3Description: Package Specification; ComponentLink3URL: http://pdfserv.maxim-ic.com/package_dwgs/21-0168.PDF
footprint T822+1_N (SON, 8-Leads, Body 2x2mm, Pitch 0.5mm, Thermal Pad 1.3x0.7mm, IPC Medium Density)
footprint T822+1_L (SON, 8-Leads, Body 2x2mm, Pitch 0.5mm, Thermal Pad 1.3x0.7mm, IPC High Density)
footprint T822+1_M (SON, 8-Leads, Body 2x2mm, Pitch 0.5mm, Thermal Pad 1.3x0.7mm, IPC Low Density)
pins: 1 NC, 2 BP, 3 GND (power), 4 ~{SHDN} (in), 5 IN (power), 6 NC, 7 OUT (power), 8 NC, 9 EP (power)

## MAX8510ETA30+T
designator U?
Ultra-Low-Noise, High PSRR, Low-Dropout, 120mA Linear Regulator, 3V Out, 8-Pin TDFN-EP, -40°C to +85°C, Pb-Free, Tape and Reel; DatasheetVersion: Rev 4, Aug-2011; PackageVersion: revF, 2011; PackageReference: T822+1; PackageDescription: 8-Pin Plastic Very Very Thin Dual Flatpack, No Leads, 2 x 2 x 0.75 mm Body, 0.5 mm Pitch, TDFN, Pb-Free; Code_JEDEC: MO-229*; ComponentLink1Description: Manufacturer URL; ComponentLink1URL: http://www.maxim-ic.com; ComponentLink2Description: Datasheet; ComponentLink2URL: http://datasheets.maxim-ic.com/en/ds/MAX8510-MAX8512.pdf; ComponentLink3Description: Package Specification; ComponentLink3URL: http://pdfserv.maxim-ic.com/package_dwgs/21-0168.PDF
footprint T822+1_N (SON, 8-Leads, Body 2x2mm, Pitch 0.5mm, Thermal Pad 1.3x0.7mm, IPC Medium Density)
footprint T822+1_L (SON, 8-Leads, Body 2x2mm, Pitch 0.5mm, Thermal Pad 1.3x0.7mm, IPC High Density)
footprint T822+1_M (SON, 8-Leads, Body 2x2mm, Pitch 0.5mm, Thermal Pad 1.3x0.7mm, IPC Low Density)
pins: 1 NC, 2 BP, 3 GND (power), 4 ~{SHDN} (in), 5 IN (power), 6 NC, 7 OUT (power), 8 NC, 9 EP (power)

## MAX8510ETA33+
designator U?
Ultra-Low-Noise, High PSRR, Low-Dropout, 120mA Linear Regulator, 3.3V Out, 8-Pin TDFN-EP, -40°C to +85°C, Pb-Free; DatasheetVersion: Rev 4, Aug-2011; PackageVersion: revF, 2011; PackageReference: T822+1; PackageDescription: 8-Pin Plastic Very Very Thin Dual Flatpack, No Leads, 2 x 2 x 0.75 mm Body, 0.5 mm Pitch, TDFN, Pb-Free; Code_JEDEC: MO-229*; ComponentLink1Description: Manufacturer URL; ComponentLink1URL: http://www.maxim-ic.com; ComponentLink2Description: Datasheet; ComponentLink2URL: http://datasheets.maxim-ic.com/en/ds/MAX8510-MAX8512.pdf; ComponentLink3Description: Package Specification; ComponentLink3URL: http://pdfserv.maxim-ic.com/package_dwgs/21-0168.PDF
footprint T822+1_N (SON, 8-Leads, Body 2x2mm, Pitch 0.5mm, Thermal Pad 1.3x0.7mm, IPC Medium Density)
footprint T822+1_L (SON, 8-Leads, Body 2x2mm, Pitch 0.5mm, Thermal Pad 1.3x0.7mm, IPC High Density)
footprint T822+1_M (SON, 8-Leads, Body 2x2mm, Pitch 0.5mm, Thermal Pad 1.3x0.7mm, IPC Low Density)
pins: 1 NC, 2 BP, 3 GND (power), 4 ~{SHDN} (in), 5 IN (power), 6 NC, 7 OUT (power), 8 NC, 9 EP (power)

## MAX8510ETA33+T
designator U?
Ultra-Low-Noise, High PSRR, Low-Dropout, 120mA Linear Regulator, 3.3V Out, 8-Pin TDFN-EP, -40°C to +85°C, Pb-Free, Tape and Reel; DatasheetVersion: Rev 4, Aug-2011; PackageVersion: revF, 2011; PackageReference: T822+1; PackageDescription: 8-Pin Plastic Very Very Thin Dual Flatpack, No Leads, 2 x 2 x 0.75 mm Body, 0.5 mm Pitch, TDFN, Pb-Free; Code_JEDEC: MO-229*; ComponentLink1Description: Manufacturer URL; ComponentLink1URL: http://www.maxim-ic.com; ComponentLink2Description: Datasheet; ComponentLink2URL: http://datasheets.maxim-ic.com/en/ds/MAX8510-MAX8512.pdf; ComponentLink3Description: Package Specification; ComponentLink3URL: http://pdfserv.maxim-ic.com/package_dwgs/21-0168.PDF
footprint T822+1_N (SON, 8-Leads, Body 2x2mm, Pitch 0.5mm, Thermal Pad 1.3x0.7mm, IPC Medium Density)
footprint T822+1_L (SON, 8-Leads, Body 2x2mm, Pitch 0.5mm, Thermal Pad 1.3x0.7mm, IPC High Density)
footprint T822+1_M (SON, 8-Leads, Body 2x2mm, Pitch 0.5mm, Thermal Pad 1.3x0.7mm, IPC Low Density)
pins: 1 NC, 2 BP, 3 GND (power), 4 ~{SHDN} (in), 5 IN (power), 6 NC, 7 OUT (power), 8 NC, 9 EP (power)

## MAX8510EXK12+T
designator U?
Ultra-Low-Noise, High PSRR, Low-Dropout, 120mA Linear Regulator, 5-Pin SC70, -40°C to +85°C, Pb-Free, Tape and Reel; DatasheetVersion: Rev 4, Aug-2011; PackageVersion: revE, 2006; PackageReference: X5+1; PackageDescription: 5-Pin SC70 Transistor Package, 0.65 mm Pitch, 2.2 mm Lead Span; Code_JEDEC: MO-203; ComponentLink1Description: Manufacturer URL; ComponentLink1URL: http://www.maxim-ic.com; ComponentLink2Description: Datasheet; ComponentLink2URL: http://datasheets.maxim-ic.com/en/ds/MAX8510-MAX8512.pdf; ComponentLink3Description: Package Specification; ComponentLink3URL: http://pdfserv.maxim-ic.com/package_dwgs/21-0076.PDF
footprint X5+1_N (SOT353, 5-Leads, Body 2x1.3mm, Pitch 0.65mm, Lead Span 2.1mm, IPC Medium Density)
footprint X5+1_L (SOT353, 5-Leads, Body 2x1.3mm, Pitch 0.65mm, Lead Span 2.1mm, IPC High Density)
footprint X5+1_M (SOT353, 5-Leads, Body 2x1.3mm, Pitch 0.65mm, Lead Span 2.1mm, IPC Low Density)
pins: 1 IN (power), 2 GND (power), 3 ~{SHDN} (in), 4 BP, 5 OUT (power)

## MAX8510EXK15+
designator U?
Ultra-Low-Noise, High PSRR, Low-Dropout, 120mA Linear Regulator, 1.5V Out, 5-Pin SC70, -40°C to +85°C, Pb-Free; DatasheetVersion: Rev 4, Aug-2011; PackageVersion: revE, 2006; PackageReference: X5+1; PackageDescription: 5-Pin SC70 Transistor Package, 0.65 mm Pitch, 2.2 mm Lead Span; Code_JEDEC: MO-203; ComponentLink1Description: Manufacturer URL; ComponentLink1URL: http://www.maxim-ic.com; ComponentLink2Description: Datasheet; ComponentLink2URL: http://datasheets.maxim-ic.com/en/ds/MAX8510-MAX8512.pdf; ComponentLink3Description: Package Specification; ComponentLink3URL: http://pdfserv.maxim-ic.com/package_dwgs/21-0076.PDF
footprint X5+1_N (SOT353, 5-Leads, Body 2x1.3mm, Pitch 0.65mm, Lead Span 2.1mm, IPC Medium Density)
footprint X5+1_L (SOT353, 5-Leads, Body 2x1.3mm, Pitch 0.65mm, Lead Span 2.1mm, IPC High Density)
footprint X5+1_M (SOT353, 5-Leads, Body 2x1.3mm, Pitch 0.65mm, Lead Span 2.1mm, IPC Low Density)
pins: 1 IN (power), 2 GND (power), 3 ~{SHDN} (in), 4 BP, 5 OUT (power)

## MAX8510EXK15+T
designator U?
Ultra-Low-Noise, High PSRR, Low-Dropout, 120mA Linear Regulator, 1.5V Out, 5-Pin SC70, -40°C to +85°C, Pb-Free, Tape and Reel; DatasheetVersion: Rev 4, Aug-2011; PackageVersion: revE, 2006; PackageReference: X5+1; PackageDescription: 5-Pin SC70 Transistor Package, 0.65 mm Pitch, 2.2 mm Lead Span; Code_JEDEC: MO-203; ComponentLink1Description: Manufacturer URL; ComponentLink1URL: http://www.maxim-ic.com; ComponentLink2Description: Datasheet; ComponentLink2URL: http://datasheets.maxim-ic.com/en/ds/MAX8510-MAX8512.pdf; ComponentLink3Description: Package Specification; ComponentLink3URL: http://pdfserv.maxim-ic.com/package_dwgs/21-0076.PDF
footprint X5+1_N (SOT353, 5-Leads, Body 2x1.3mm, Pitch 0.65mm, Lead Span 2.1mm, IPC Medium Density)
footprint X5+1_L (SOT353, 5-Leads, Body 2x1.3mm, Pitch 0.65mm, Lead Span 2.1mm, IPC High Density)
footprint X5+1_M (SOT353, 5-Leads, Body 2x1.3mm, Pitch 0.65mm, Lead Span 2.1mm, IPC Low Density)
pins: 1 IN (power), 2 GND (power), 3 ~{SHDN} (in), 4 BP, 5 OUT (power)

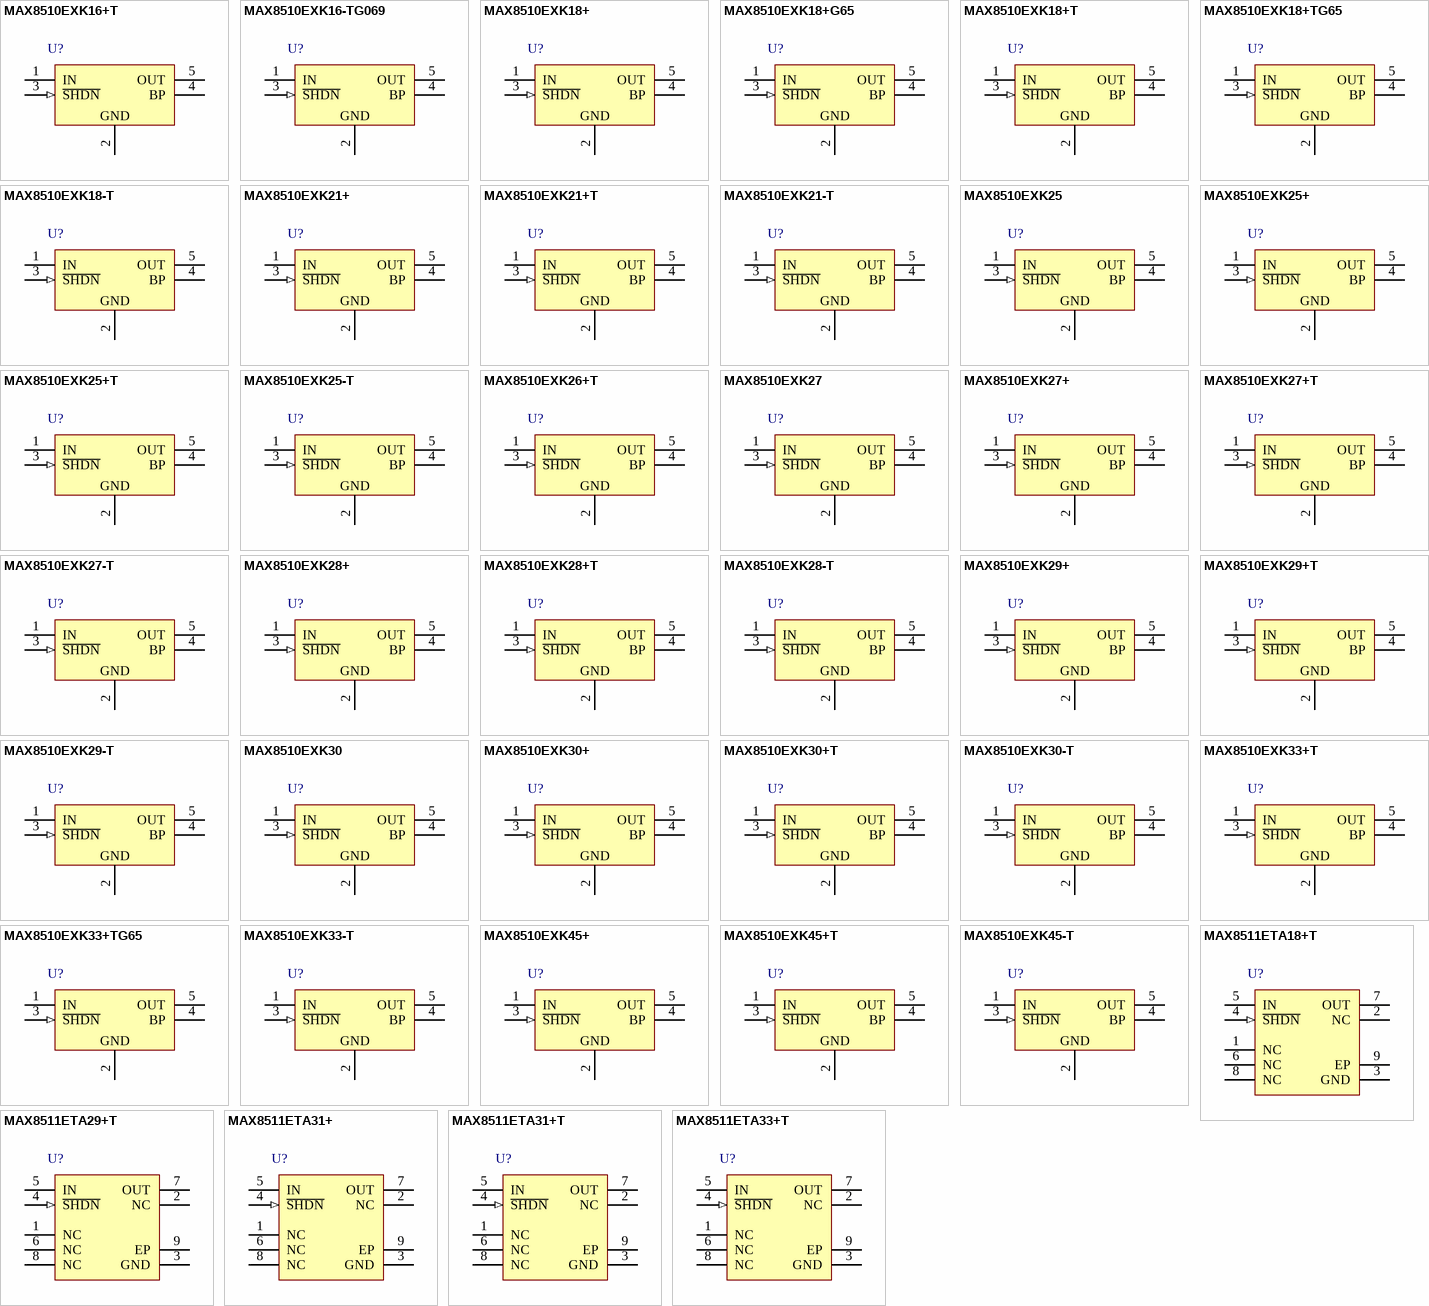
[diagram p9: symbols MAX8510EXK16+T to MAX8511ETA33+T]

## MAX8510EXK16+T
designator U?
Ultra-Low-Noise, High PSRR, Low-Dropout, 120mA Linear Regulator, 1.6V Out, 5-Pin SC70, -40°C to +85°C, Pb-Free, Tape and Reel; DatasheetVersion: Rev 4, Aug-2011; PackageVersion: revE, 2006; PackageReference: X5+1; PackageDescription: 5-Pin SC70 Transistor Package, 0.65 mm Pitch, 2.2 mm Lead Span; Code_JEDEC: MO-203; ComponentLink1Description: Manufacturer URL; ComponentLink1URL: http://www.maxim-ic.com; ComponentLink2Description: Datasheet; ComponentLink2URL: http://datasheets.maxim-ic.com/en/ds/MAX8510-MAX8512.pdf; ComponentLink3Description: Package Specification; ComponentLink3URL: http://pdfserv.maxim-ic.com/package_dwgs/21-0076.PDF
footprint X5+1_N (SOT353, 5-Leads, Body 2x1.3mm, Pitch 0.65mm, Lead Span 2.1mm, IPC Medium Density)
footprint X5+1_L (SOT353, 5-Leads, Body 2x1.3mm, Pitch 0.65mm, Lead Span 2.1mm, IPC High Density)
footprint X5+1_M (SOT353, 5-Leads, Body 2x1.3mm, Pitch 0.65mm, Lead Span 2.1mm, IPC Low Density)
pins: 1 IN (power), 2 GND (power), 3 ~{SHDN} (in), 4 BP, 5 OUT (power)

## MAX8510EXK16-TG069
designator U?
Ultra-Low-Noise, High PSRR, Low-Dropout, 120mA Linear Regulator, 1.6V Out, 5-Pin SC70, -40°C to +85°C, Tape and Reel; DatasheetVersion: Rev 4, Aug-2011; PackageVersion: revE, 2006; PackageReference: X5-1; PackageDescription: 5-Pin SC70 Transistor Package, 0.65 mm Pitch, 2.2 mm Lead Span; Code_JEDEC: MO-203; ComponentLink1Description: Manufacturer URL; ComponentLink1URL: http://www.maxim-ic.com; ComponentLink2Description: Datasheet; ComponentLink2URL: http://datasheets.maxim-ic.com/en/ds/MAX8510-MAX8512.pdf; ComponentLink3Description: Package Specification; ComponentLink3URL: http://pdfserv.maxim-ic.com/package_dwgs/21-0076.PDF
footprint X5-1_N (SOT353, 5-Leads, Body 2x1.3mm, Pitch 0.65mm, Lead Span 2.1mm, IPC Medium Density)
footprint X5-1_L (SOT353, 5-Leads, Body 2x1.3mm, Pitch 0.65mm, Lead Span 2.1mm, IPC High Density)
footprint X5-1_M (SOT353, 5-Leads, Body 2x1.3mm, Pitch 0.65mm, Lead Span 2.1mm, IPC Low Density)
pins: 1 IN (power), 2 GND (power), 3 ~{SHDN} (in), 4 BP, 5 OUT (power)

## MAX8510EXK18+
designator U?
Ultra-Low-Noise, High PSRR, Low-Dropout, 120mA Linear Regulator, 1.8V Out, 5-Pin SC70, -40°C to +85°C, Pb-Free; DatasheetVersion: Rev 4, Aug-2011; PackageVersion: revE, 2006; PackageReference: X5+1; PackageDescription: 5-Pin SC70 Transistor Package, 0.65 mm Pitch, 2.2 mm Lead Span; Code_JEDEC: MO-203; ComponentLink1Description: Manufacturer URL; ComponentLink1URL: http://www.maxim-ic.com; ComponentLink2Description: Datasheet; ComponentLink2URL: http://datasheets.maxim-ic.com/en/ds/MAX8510-MAX8512.pdf; ComponentLink3Description: Package Specification; ComponentLink3URL: http://pdfserv.maxim-ic.com/package_dwgs/21-0076.PDF
footprint X5+1_N (SOT353, 5-Leads, Body 2x1.3mm, Pitch 0.65mm, Lead Span 2.1mm, IPC Medium Density)
footprint X5+1_L (SOT353, 5-Leads, Body 2x1.3mm, Pitch 0.65mm, Lead Span 2.1mm, IPC High Density)
footprint X5+1_M (SOT353, 5-Leads, Body 2x1.3mm, Pitch 0.65mm, Lead Span 2.1mm, IPC Low Density)
pins: 1 IN (power), 2 GND (power), 3 ~{SHDN} (in), 4 BP, 5 OUT (power)

## MAX8510EXK18+G65
designator U?
Ultra-Low-Noise, High PSRR, Low-Dropout, 120mA Linear Regulator, 1.8V Out, 5-Pin SC70, -40°C to +85°C, Pb-Free; DatasheetVersion: Rev 4, Aug-2011; PackageVersion: revE, 2006; PackageReference: X5+1; PackageDescription: 5-Pin SC70 Transistor Package, 0.65 mm Pitch, 2.2 mm Lead Span; Code_JEDEC: MO-203; ComponentLink1Description: Manufacturer URL; ComponentLink1URL: http://www.maxim-ic.com; ComponentLink2Description: Datasheet; ComponentLink2URL: http://datasheets.maxim-ic.com/en/ds/MAX8510-MAX8512.pdf; ComponentLink3Description: Package Specification; ComponentLink3URL: http://pdfserv.maxim-ic.com/package_dwgs/21-0076.PDF
footprint X5+1_N (SOT353, 5-Leads, Body 2x1.3mm, Pitch 0.65mm, Lead Span 2.1mm, IPC Medium Density)
footprint X5+1_L (SOT353, 5-Leads, Body 2x1.3mm, Pitch 0.65mm, Lead Span 2.1mm, IPC High Density)
footprint X5+1_M (SOT353, 5-Leads, Body 2x1.3mm, Pitch 0.65mm, Lead Span 2.1mm, IPC Low Density)
pins: 1 IN (power), 2 GND (power), 3 ~{SHDN} (in), 4 BP, 5 OUT (power)

## MAX8510EXK18+T
designator U?
Ultra-Low-Noise, High PSRR, Low-Dropout, 120mA Linear Regulator, 1.8V Out, 5-Pin SC70, -40°C to +85°C, Pb-Free, Tape and Reel; DatasheetVersion: Rev 4, Aug-2011; PackageVersion: revE, 2006; PackageReference: X5+1; PackageDescription: 5-Pin SC70 Transistor Package, 0.65 mm Pitch, 2.2 mm Lead Span; Code_JEDEC: MO-203; ComponentLink1Description: Manufacturer URL; ComponentLink1URL: http://www.maxim-ic.com; ComponentLink2Description: Datasheet; ComponentLink2URL: http://datasheets.maxim-ic.com/en/ds/MAX8510-MAX8512.pdf; ComponentLink3Description: Package Specification; ComponentLink3URL: http://pdfserv.maxim-ic.com/package_dwgs/21-0076.PDF
footprint X5+1_N (SOT353, 5-Leads, Body 2x1.3mm, Pitch 0.65mm, Lead Span 2.1mm, IPC Medium Density)
footprint X5+1_L (SOT353, 5-Leads, Body 2x1.3mm, Pitch 0.65mm, Lead Span 2.1mm, IPC High Density)
footprint X5+1_M (SOT353, 5-Leads, Body 2x1.3mm, Pitch 0.65mm, Lead Span 2.1mm, IPC Low Density)
pins: 1 IN (power), 2 GND (power), 3 ~{SHDN} (in), 4 BP, 5 OUT (power)

## MAX8510EXK18+TG65
designator U?
Ultra-Low-Noise, High PSRR, Low-Dropout, 120mA Linear Regulator, 1.8V Out, 5-Pin SC70, -40°C to +85°C, Pb-Free, Tape and Reel; DatasheetVersion: Rev 4, Aug-2011; PackageVersion: revE, 2006; PackageReference: X5+1; PackageDescription: 5-Pin SC70 Transistor Package, 0.65 mm Pitch, 2.2 mm Lead Span; Code_JEDEC: MO-203; ComponentLink1Description: Manufacturer URL; ComponentLink1URL: http://www.maxim-ic.com; ComponentLink2Description: Datasheet; ComponentLink2URL: http://datasheets.maxim-ic.com/en/ds/MAX8510-MAX8512.pdf; ComponentLink3Description: Package Specification; ComponentLink3URL: http://pdfserv.maxim-ic.com/package_dwgs/21-0076.PDF
footprint X5+1_N (SOT353, 5-Leads, Body 2x1.3mm, Pitch 0.65mm, Lead Span 2.1mm, IPC Medium Density)
footprint X5+1_L (SOT353, 5-Leads, Body 2x1.3mm, Pitch 0.65mm, Lead Span 2.1mm, IPC High Density)
footprint X5+1_M (SOT353, 5-Leads, Body 2x1.3mm, Pitch 0.65mm, Lead Span 2.1mm, IPC Low Density)
pins: 1 IN (power), 2 GND (power), 3 ~{SHDN} (in), 4 BP, 5 OUT (power)

## MAX8510EXK18-T
designator U?
Ultra-Low-Noise, High PSRR, Low-Dropout, 120mA Linear Regulator, 1.8V Out, 5-Pin SC70, -40°C to +85°C, Tape and Reel; DatasheetVersion: Rev 4, Aug-2011; PackageVersion: revE, 2006; PackageReference: X5-1; PackageDescription: 5-Pin SC70 Transistor Package, 0.65 mm Pitch, 2.2 mm Lead Span; Code_JEDEC: MO-203; ComponentLink1Description: Manufacturer URL; ComponentLink1URL: http://www.maxim-ic.com; ComponentLink2Description: Datasheet; ComponentLink2URL: http://datasheets.maxim-ic.com/en/ds/MAX8510-MAX8512.pdf; ComponentLink3Description: Package Specification; ComponentLink3URL: http://pdfserv.maxim-ic.com/package_dwgs/21-0076.PDF
footprint X5-1_N (SOT353, 5-Leads, Body 2x1.3mm, Pitch 0.65mm, Lead Span 2.1mm, IPC Medium Density)
footprint X5-1_L (SOT353, 5-Leads, Body 2x1.3mm, Pitch 0.65mm, Lead Span 2.1mm, IPC High Density)
footprint X5-1_M (SOT353, 5-Leads, Body 2x1.3mm, Pitch 0.65mm, Lead Span 2.1mm, IPC Low Density)
pins: 1 IN (power), 2 GND (power), 3 ~{SHDN} (in), 4 BP, 5 OUT (power)

## MAX8510EXK21+
designator U?
Ultra-Low-Noise, High PSRR, Low-Dropout, 120mA Linear Regulator, 5-Pin SC70, -40°C to +85°C, Pb-Free; DatasheetVersion: Rev 4, Aug-2011; PackageVersion: revE, 2006; PackageReference: X5+1; PackageDescription: 5-Pin SC70 Transistor Package, 0.65 mm Pitch, 2.2 mm Lead Span; Code_JEDEC: MO-203; ComponentLink1Description: Manufacturer URL; ComponentLink1URL: http://www.maxim-ic.com; ComponentLink2Description: Datasheet; ComponentLink2URL: http://datasheets.maxim-ic.com/en/ds/MAX8510-MAX8512.pdf; ComponentLink3Description: Package Specification; ComponentLink3URL: http://pdfserv.maxim-ic.com/package_dwgs/21-0076.PDF
footprint X5+1_N (SOT353, 5-Leads, Body 2x1.3mm, Pitch 0.65mm, Lead Span 2.1mm, IPC Medium Density)
footprint X5+1_L (SOT353, 5-Leads, Body 2x1.3mm, Pitch 0.65mm, Lead Span 2.1mm, IPC High Density)
footprint X5+1_M (SOT353, 5-Leads, Body 2x1.3mm, Pitch 0.65mm, Lead Span 2.1mm, IPC Low Density)
pins: 1 IN (power), 2 GND (power), 3 ~{SHDN} (in), 4 BP, 5 OUT (power)

## MAX8510EXK21+T
designator U?
Ultra-Low-Noise, High PSRR, Low-Dropout, 120mA Linear Regulator, 5-Pin SC70, -40°C to +85°C, Pb-Free, Tape and Reel; DatasheetVersion: Rev 4, Aug-2011; PackageVersion: revE, 2006; PackageReference: X5+1; PackageDescription: 5-Pin SC70 Transistor Package, 0.65 mm Pitch, 2.2 mm Lead Span; Code_JEDEC: MO-203; ComponentLink1Description: Manufacturer URL; ComponentLink1URL: http://www.maxim-ic.com; ComponentLink2Description: Datasheet; ComponentLink2URL: http://datasheets.maxim-ic.com/en/ds/MAX8510-MAX8512.pdf; ComponentLink3Description: Package Specification; ComponentLink3URL: http://pdfserv.maxim-ic.com/package_dwgs/21-0076.PDF
footprint X5+1_N (SOT353, 5-Leads, Body 2x1.3mm, Pitch 0.65mm, Lead Span 2.1mm, IPC Medium Density)
footprint X5+1_L (SOT353, 5-Leads, Body 2x1.3mm, Pitch 0.65mm, Lead Span 2.1mm, IPC High Density)
footprint X5+1_M (SOT353, 5-Leads, Body 2x1.3mm, Pitch 0.65mm, Lead Span 2.1mm, IPC Low Density)
pins: 1 IN (power), 2 GND (power), 3 ~{SHDN} (in), 4 BP, 5 OUT (power)

## MAX8510EXK21-T
designator U?
Ultra-Low-Noise, High PSRR, Low-Dropout, 120mA Linear Regulator, 5-Pin SC70, -40°C to +85°C, Tape and Reel; DatasheetVersion: Rev 4, Aug-2011; PackageVersion: revE, 2006; PackageReference: X5-1; PackageDescription: 5-Pin SC70 Transistor Package, 0.65 mm Pitch, 2.2 mm Lead Span; Code_JEDEC: MO-203; ComponentLink1Description: Manufacturer URL; ComponentLink1URL: http://www.maxim-ic.com; ComponentLink2Description: Datasheet; ComponentLink2URL: http://datasheets.maxim-ic.com/en/ds/MAX8510-MAX8512.pdf; ComponentLink3Description: Package Specification; ComponentLink3URL: http://pdfserv.maxim-ic.com/package_dwgs/21-0076.PDF
footprint X5-1_N (SOT353, 5-Leads, Body 2x1.3mm, Pitch 0.65mm, Lead Span 2.1mm, IPC Medium Density)
footprint X5-1_L (SOT353, 5-Leads, Body 2x1.3mm, Pitch 0.65mm, Lead Span 2.1mm, IPC High Density)
footprint X5-1_M (SOT353, 5-Leads, Body 2x1.3mm, Pitch 0.65mm, Lead Span 2.1mm, IPC Low Density)
pins: 1 IN (power), 2 GND (power), 3 ~{SHDN} (in), 4 BP, 5 OUT (power)

## MAX8510EXK25
designator U?
Ultra-Low-Noise, High PSRR, Low-Dropout, 120mA Linear Regulator, 2.5V Out, 5-Pin SC70, -40°C to +85°C; DatasheetVersion: Rev 4, Aug-2011; PackageVersion: revE, 2006; PackageReference: X5-1; PackageDescription: 5-Pin SC70 Transistor Package, 0.65 mm Pitch, 2.2 mm Lead Span; Code_JEDEC: MO-203; ComponentLink1Description: Manufacturer URL; ComponentLink1URL: http://www.maxim-ic.com; ComponentLink2Description: Datasheet; ComponentLink2URL: http://datasheets.maxim-ic.com/en/ds/MAX8510-MAX8512.pdf; ComponentLink3Description: Package Specification; ComponentLink3URL: http://pdfserv.maxim-ic.com/package_dwgs/21-0076.PDF
footprint X5-1_N (SOT353, 5-Leads, Body 2x1.3mm, Pitch 0.65mm, Lead Span 2.1mm, IPC Medium Density)
footprint X5-1_L (SOT353, 5-Leads, Body 2x1.3mm, Pitch 0.65mm, Lead Span 2.1mm, IPC High Density)
footprint X5-1_M (SOT353, 5-Leads, Body 2x1.3mm, Pitch 0.65mm, Lead Span 2.1mm, IPC Low Density)
pins: 1 IN (power), 2 GND (power), 3 ~{SHDN} (in), 4 BP, 5 OUT (power)

## MAX8510EXK25+
designator U?
Ultra-Low-Noise, High PSRR, Low-Dropout, 120mA Linear Regulator, 2.5V Out, 5-Pin SC70, -40°C to +85°C, Pb-Free; DatasheetVersion: Rev 4, Aug-2011; PackageVersion: revE, 2006; PackageReference: X5+1; PackageDescription: 5-Pin SC70 Transistor Package, 0.65 mm Pitch, 2.2 mm Lead Span; Code_JEDEC: MO-203; ComponentLink1Description: Manufacturer URL; ComponentLink1URL: http://www.maxim-ic.com; ComponentLink2Description: Datasheet; ComponentLink2URL: http://datasheets.maxim-ic.com/en/ds/MAX8510-MAX8512.pdf; ComponentLink3Description: Package Specification; ComponentLink3URL: http://pdfserv.maxim-ic.com/package_dwgs/21-0076.PDF
footprint X5+1_N (SOT353, 5-Leads, Body 2x1.3mm, Pitch 0.65mm, Lead Span 2.1mm, IPC Medium Density)
footprint X5+1_L (SOT353, 5-Leads, Body 2x1.3mm, Pitch 0.65mm, Lead Span 2.1mm, IPC High Density)
footprint X5+1_M (SOT353, 5-Leads, Body 2x1.3mm, Pitch 0.65mm, Lead Span 2.1mm, IPC Low Density)
pins: 1 IN (power), 2 GND (power), 3 ~{SHDN} (in), 4 BP, 5 OUT (power)

## MAX8510EXK25+T
designator U?
Ultra-Low-Noise, High PSRR, Low-Dropout, 120mA Linear Regulator, 2.5V Out, 5-Pin SC70, -40°C to +85°C, Pb-Free, Tape and Reel; DatasheetVersion: Rev 4, Aug-2011; PackageVersion: revE, 2006; PackageReference: X5+1; PackageDescription: 5-Pin SC70 Transistor Package, 0.65 mm Pitch, 2.2 mm Lead Span; Code_JEDEC: MO-203; ComponentLink1Description: Manufacturer URL; ComponentLink1URL: http://www.maxim-ic.com; ComponentLink2Description: Datasheet; ComponentLink2URL: http://datasheets.maxim-ic.com/en/ds/MAX8510-MAX8512.pdf; ComponentLink3Description: Package Specification; ComponentLink3URL: http://pdfserv.maxim-ic.com/package_dwgs/21-0076.PDF
footprint X5+1_N (SOT353, 5-Leads, Body 2x1.3mm, Pitch 0.65mm, Lead Span 2.1mm, IPC Medium Density)
footprint X5+1_L (SOT353, 5-Leads, Body 2x1.3mm, Pitch 0.65mm, Lead Span 2.1mm, IPC High Density)
footprint X5+1_M (SOT353, 5-Leads, Body 2x1.3mm, Pitch 0.65mm, Lead Span 2.1mm, IPC Low Density)
pins: 1 IN (power), 2 GND (power), 3 ~{SHDN} (in), 4 BP, 5 OUT (power)